# EAGLE library part CY8C2*345 (library EW_IC_Processors)
PSoC® Programmable System-on-Chip TM M8C Processor Speeds up to 24 MHz Source: http://www.cypress.com .. CY8C213452.pdf
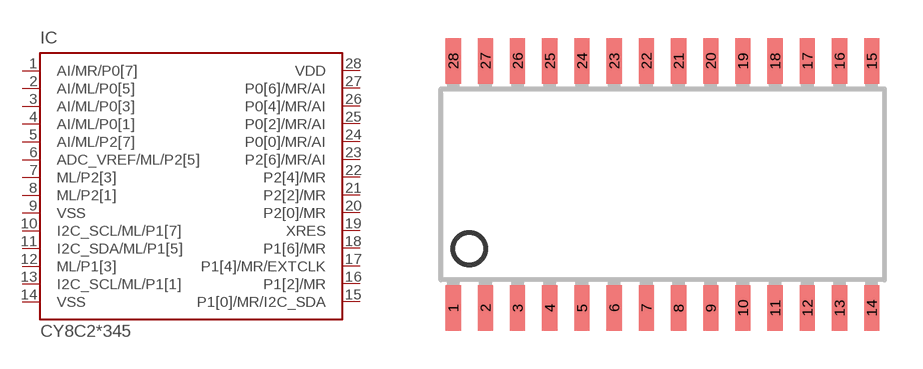
[diagram p37: symbol with the pads of SOIC28-3; footprint SOIC28-3]

Designator prefix IC

## CY8C21345 (OC_FARNELL: unknown; OC_NEWARK: unknown), CY8C22345 (MPN: CY3250-22345; OC_FARNELL: unknown; OC_NEWARK: 50R9266)  [SOIC28-3]
1  AI/MR/P0[7]
2  AI/ML/P0[5]
3  AI/ML/P0[3]
4  AI/ML/P0[1]
5  AI/ML/P2[7]
6  ADC_VREF/ML/P2[5]
7  ML/P2[3]
8  ML/P2[1]
9  VSS  pwr
10  I2C_SCL/ML/P1[7]
11  I2C_SDA/ML/P1[5]
12  ML/P1[3]
13  I2C_SCL/ML/P1[1]
14  VSS  pwr
15  P1[0]/MR/I2C_SDA
16  P1[2]/MR
17  P1[4]/MR/EXTCLK
18  P1[6]/MR
19  XRES  in
20  P2[0]/MR
21  P2[2]/MR
22  P2[4]/MR
23  P2[6]/MR/AI
24  P0[0]/MR/AI
25  P0[2]/MR/AI
26  P0[4]/MR/AI
27  P0[6]/MR/AI
28  VDD  pwr

## Footprint SOIC28-3 (pad centres in mm)
28-Pin SOIC Body 7.63 mm Source: http://www.cypress.com .. CY8C21345.pdf
smd 0.6 x 1.8: 1 -8.255,-4.87; 2 -6.985,-4.87; 3 -5.715,-4.87; 4 -4.445,-4.87; 5 -3.175,-4.87; 6 -1.905,-4.87; 7 -0.635,-4.87; 8 0.635,-4.87; 9 1.905,-4.87; 10 3.175,-4.87; 11 4.445,-4.87; 12 5.715,-4.87; 13 6.985,-4.87; 14 8.255,-4.87; 15 8.255,4.87; 16 6.985,4.87; 17 5.715,4.87; 18 4.445,4.87; 19 3.175,4.87; 20 1.905,4.87; 21 0.635,4.87; 22 -0.635,4.87; 23 -1.905,4.87; 24 -3.175,4.87; 25 -4.445,4.87; 26 -5.715,4.87; 27 -6.985,4.87; 28 -8.255,4.87